# Altium footprint library PcbLib1.PcbLib: 68 footprints (part 3 of 5)
Each footprint in its own frame and in the unit in brackets; x right, y up, seen from the top. Pads: shape width x height; smd on the part's side, far side on the other; paste and mask are expansions set on the pad; w line width, h text height; cw(c..) or ccw(c..) is an arc to the next point about the centre after c.
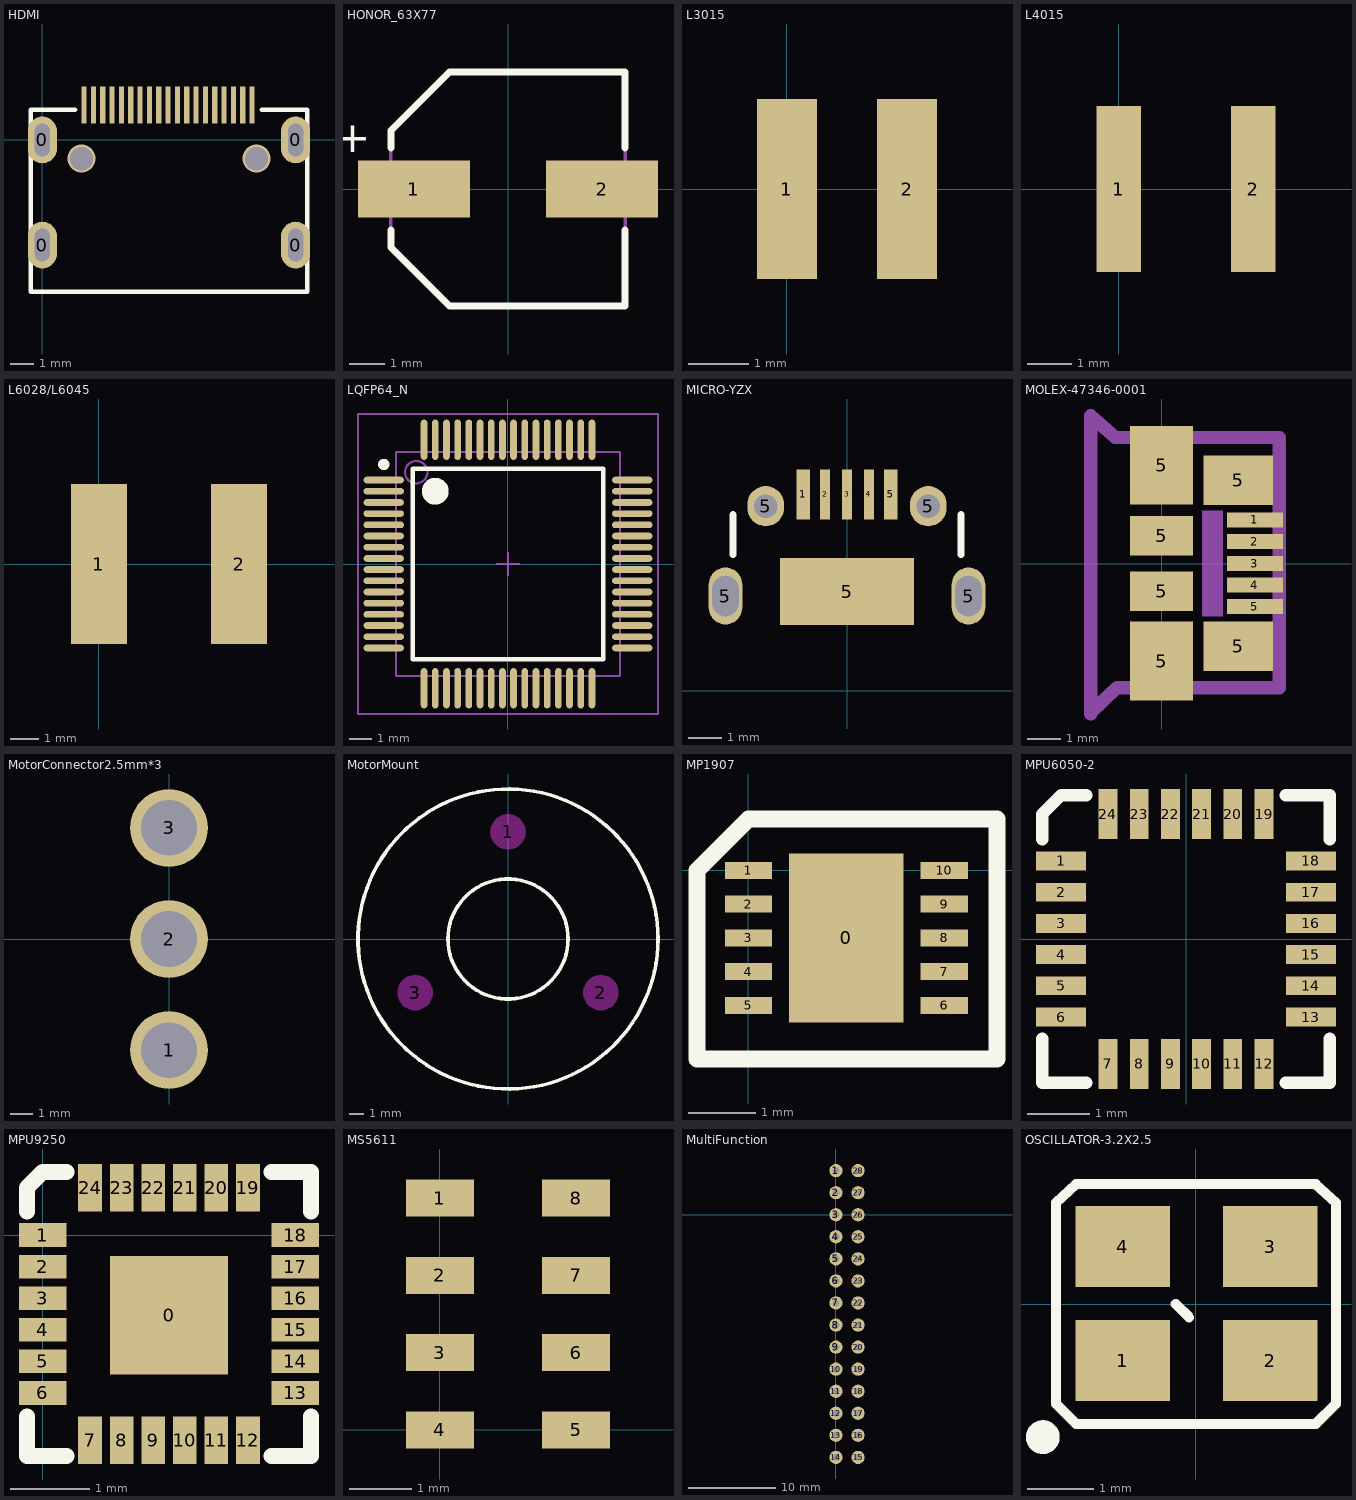
[diagram p2: the footprints below, top view; thin cyan lines are the x and y axes]

## HDMI [mm]
pads (23):
  oval 1.25x2 hole 0.65 slot 1.4 at 90 deg: 0(0,-4.5) 0(0,0) 0(10.85,-4.5) 0(10.85,0)
  rect 0.22x1.6 smd: 1(8.985,1.5) 2(8.585,1.5) 3(8.185,1.5) 4(7.785,1.5) 5(7.385,1.5) 6(6.985,1.5) 7(6.585,1.5) 8(6.185,1.5) 9(5.785,1.5) 10(5.385,1.5) 11(4.985,1.5) 12(4.585,1.5) 13(4.185,1.5) 14(3.785,1.5) 15(3.385,1.5) 16(2.985,1.5) 17(2.585,1.5) 18(2.185,1.5) 19(1.785,1.5)
via 9.175,-0.8 diameter 1.2 hole 1
via 1.675,-0.8 diameter 1.2 hole 1
Top Overlay:
  lines w0.2: 1.4,1.3 -0.5,1.3 -0.5,-6.5 11.35,-6.5 11.35,1.3 9.4,1.3

## HONOR_63X77 [mm]
pads (2):
  rect 3.15x1.6 smd: 1(-2.65,0) 2(2.65,0)
Top Overlay:
  lines w0.2: -3.3,-1.15 -3.3,-1.65 -1.65,-3.3 3.3,-3.3 3.3,-1.15 ; -3.3,1.15 -3.3,1.65 -1.65,3.3 3.3,3.3 3.3,1.15
  text "+" at -3.861,1.041 h0.89
Mechanical 1:
  lines w0.1: -3.3,-1.65 -3.3,1.65 -1.65,3.3 3.3,3.3 3.3,-3.3 -1.65,-3.3 -3.3,-1.65

## L3015 [mm]
pads (2):
  rect 1x3 smd: 1(0,0) 2(2,0)

## L4015 [mm]
pads (2):
  rect 1x3.7 smd: 1(0,0) 2(3,0)

## L6028/L6045 [mm]
pads (2):
  rect 2x5.7 smd: 1(0,0) 2(5,0)

## LQFP64_N [mm]
pads (64):
  oval 1.8x0.3 smd: 1(-5.55,3.75) 2(-5.55,3.25) 3(-5.55,2.75) 4(-5.55,2.25) 5(-5.55,1.75) 6(-5.55,1.25) 7(-5.55,0.75) 8(-5.55,0.25) 9(-5.55,-0.25) 10(-5.55,-0.75) 11(-5.55,-1.25) 12(-5.55,-1.75) 13(-5.55,-2.25) 14(-5.55,-2.75) 15(-5.55,-3.25) 16(-5.55,-3.75) 33(5.55,-3.75) 34(5.55,-3.25) 35(5.55,-2.75) 36(5.55,-2.25) 37(5.55,-1.75) 38(5.55,-1.25) 39(5.55,-0.75) 40(5.55,-0.25) 41(5.55,0.25) 42(5.55,0.75) 43(5.55,1.25) 44(5.55,1.75) 45(5.55,2.25) 46(5.55,2.75) 47(5.55,3.25) 48(5.55,3.75)
  oval 0.3x1.8 smd: 17(-3.75,-5.55) 18(-3.25,-5.55) 19(-2.75,-5.55) 20(-2.25,-5.55) 21(-1.75,-5.55) 22(-1.25,-5.55) 23(-0.75,-5.55) 24(-0.25,-5.55) 25(0.25,-5.55) 26(0.75,-5.55) 27(1.25,-5.55) 28(1.75,-5.55) 29(2.25,-5.55) 30(2.75,-5.55) 31(3.25,-5.55) 32(3.75,-5.55) 49(3.75,5.55) 50(3.25,5.55) 51(2.75,5.55) 52(2.25,5.55) 53(1.75,5.55) 54(1.25,5.55) 55(0.75,5.55) 56(0.25,5.55) 57(-0.25,5.55) 58(-0.75,5.55) 59(-1.25,5.55) 60(-1.75,5.55) 61(-2.25,5.55) 62(-2.75,5.55) 63(-3.25,5.55) 64(-3.75,5.55)
Top Overlay:
  circle w0.25: c-5.55,4.45 r0.125
  circle w0.6: c-3.25,3.25 r0.3
  lines w0.2: -4.25,-4.25 -4.25,4.25 4.25,4.25 4.25,-4.25 -4.25,-4.25
Mechanical 13:
  circle w0.1: c-4.1,4.1 r0.5
  lines w0.1: -5,-5 -5,5 5,5 5,-5 -5,-5
Mechanical 15:
  lines w0.1: -0.5,0 0.5,0 ; 0,-0.5 0,0.5 ; -6.7,-6.7 -6.7,6.7 6.7,6.7 6.7,-6.7 -6.7,-6.7

## MICRO-YZX [mm]
pads (10):
  rect 0.4x1.5 smd: 1(-1.3,5.85) 5(1.3,5.85)
  rect 0.3x1.5 smd: 2(-0.65,5.85) 3(0,5.85) 4(0.65,5.85)
  oval 1x1.7 hole 0.8 slot 1.2 at 90 deg: 5(-3.625,2.82) 5(3.625,2.82)
  oval 1.1x1.2 hole 0.7: 5(-2.425,5.5) 5(2.425,5.5)
  rect 4x2 smd: 5(0,2.95)
Top Overlay:
  lines w0.2: -3.4,4.05 -3.4,5.25 ; 3.4,4.05 3.4,5.25
3D body: height 2.6, standoff 0, extent -4.025,0.325 3.975,5.925

## MOLEX-47346-0001 [mil] "MOLEX-47346-0001"
pads (11):
  rect 67x18 smd: 1(111,52) 2(111,26) 3(111,0) 4(111,-25.59) 5(111,-51.18)
  rect 75x94 smd: 5(0,-116.14) 5(0,117)
  rect 75x47 smd: 5(0,-32.97) 5(0,33)
  rect 83x59 smd: 5(91,-98.43) 5(91,99)
Mechanical 8:
  rectangle: 48,-62.99 73,63
Mechanical 16:
  lines w1: -86.61,-177.17 -86.61,178 -82.68,178 -55.12,150 138,150 142,146 142,-145.67 138,-149.61 -55.12,-149.61 -82.68,-177.17 -86.61,-177.17
  lines w16: -84.65,-179.13 -84.65,-177.17 ; -84.65,-177.17 -84.65,176 -55.12,150 140,150 140,-147.64 -53.15,-147.64 -84.65,-177.17

## MotorConnector2.5mm*3 [mm]
pads (3):
  round 3.5 hole 2.5: 1(0,-5) 2(0,0) 3(0,5)

## MotorMount [mm]
pads (3):
  round 2.5 on Keep-Out: 1(0,7.5) 2(6.5,-3.75) 3(-6.5,-3.75)
Top Overlay:
  circle w0.254: c0,0 r10.5
  circle w0.254: c0,0 r4.2

## MP1907 [mm]
pads (11):
  rect 1.7x2.5 smd: 0(1.45,-1)
  rect 0.7x0.25 smd: 1(0,0) 2(0,-0.5) 3(0,-1) 4(0,-1.5) 5(0,-2) 6(2.9,-2) 7(2.9,-1.5) 8(2.9,-1) 9(2.9,-0.5) 10(2.9,0)
Top Overlay:
  lines w0.254: -0.762,-2.794 -0.762,0 0,0.762 3.683,0.762 3.683,-2.794 -0.762,-2.794
3D body: height 0.9, standoff 0, extent 0,-2.54 3.048,0.508

## MPU6050-2 [mm]
pads (24):
  rect 0.8x0.3 smd: 1(-2,1.25) 2(-2,0.75) 3(-2,0.25) 4(-2,-0.25) 5(-2,-0.75) 6(-2,-1.25) 13(2,-1.25) 14(2,-0.75) 15(2,-0.25) 16(2,0.25) 17(2,0.75) 18(2,1.25)
  rect 0.3x0.8 smd: 7(-1.25,-2) 8(-0.75,-2) 9(-0.25,-2) 10(0.25,-2) 11(0.75,-2) 12(1.25,-2) 19(1.25,2) 20(0.75,2) 21(0.25,2) 22(-0.25,2) 23(-0.75,2) 24(-1.25,2)
Top Overlay:
  lines w0.2: -2.3,-1.6 -2.3,-2.3 -1.6,-2.3 ; -2.3,1.6 -2.3,2 -2,2.3 -1.6,2.3 ; 1.6,-2.3 2.3,-2.3 2.3,-1.6 ; 1.6,2.3 2.3,2.3 2.3,1.6
3D body: height 1, standoff 0, extent -1.746,-1.671 1.683,1.758

## MPU9250 [mm]
pads (25):
  rect 1.5x1.5 smd: 0(1.6,-1.016)
  rect 0.6x0.3 smd: 1(0,0) 2(0,-0.4) 3(0,-0.8) 4(0,-1.2) 5(0,-1.6) 6(0,-2) 13(3.2,-2) 14(3.2,-1.6) 15(3.2,-1.2) 16(3.2,-0.8) 17(3.2,-0.4) 18(3.2,0)
  rect 0.3x0.6 smd: 7(0.6,-2.6) 8(1,-2.6) 9(1.4,-2.6) 10(1.8,-2.6) 11(2.2,-2.6) 12(2.6,-2.6) 19(2.6,0.6) 20(2.2,0.6) 21(1.8,0.6) 22(1.4,0.6) 23(1,0.6) 24(0.6,0.6)
Top Overlay:
  lines w0.2: -0.2,-2.3 -0.2,-2.8 0.3,-2.8 ; -0.2,0.3 -0.2,0.6 0,0.8 0.3,0.8 ; 2.9,-2.8 3.4,-2.8 3.4,-2.3 ; 2.9,0.8 3.4,0.8 3.4,0.3
3D body: height 1, standoff 0, extent 0.102,-2.515 3.099,0.483

## MS5611 [mm]
pads (8):
  rect 1.1x0.6 smd: 1(0,3.75) 2(0,2.5) 3(0,1.25) 4(0,0) 5(2.2,0) 6(2.2,1.25) 7(2.2,2.5) 8(2.2,3.75)
3D body: height 1, standoff 0, extent -0.508,-0.508 2.667,4.318

## MultiFunction [mil]
pads (28):
  round 60 hole 30: 1(0,200) 2(0,100) 3(0,0) 4(0,-100) 5(0,-200) 6(0,-300) 7(0,-400) 8(0,-500) 9(0,-600) 10(0,-700) 11(0,-800) 12(0,-900) 13(0,-1000) 14(0,-1100) 15(100,-1100) 16(100,-1000) 17(100,-900) 18(100,-800) 19(100,-700) 20(100,-600) 21(100,-500) 22(100,-400) 23(100,-300) 24(100,-200) 25(100,-100) 26(100,0) 27(100,100) 28(100,200)

## OSCILLATOR-3.2X2.5 [mil] "OSCILLATOR-3.2X2.5"
pads (4):
  rect 56x48 smd: 1(-43.31,-33.46) 2(44,-33.46) 3(44,34) 4(-43.31,34)
Top Overlay:
  circle w12: c-90.55,-78.74 r4
  lines w6: -11.81,0 -3.94,-7.87 ; -82.68,-59.06 -70.87,-70.87 71,-70.87 83,-59.06 83,60 71,71 -70.87,71 -82.68,60 -82.68,-59.06
Mechanical 16:
  lines w1: -82.68,-59.06 -70.87,-70.87 71,-70.87 83,-59.06 83,60 71,71 -70.87,71 -82.68,60 -82.68,-59.06